# Altium schematic symbol library Opamp.Schlib: 1 symbol
Pins are listed as number, name and electrical type; pins without a type are passive.

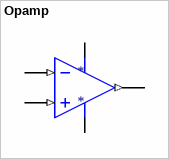
[diagram p0: symbol Opamp]

## Opamp
designator *
pins: 1 out (out), 2 Vss (power), 3 + (in), 4 - (in), 5 Vdd (power)